# Altium schematic symbol library TAC5242IRGER.SchLib: 1 symbol
Pins are listed as number, name and electrical type; pins without a type are passive.

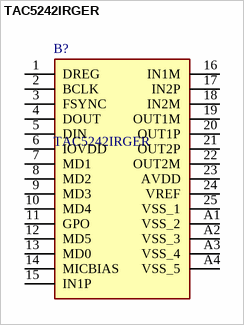
[diagram p0: symbol TAC5242IRGER]

## TAC5242IRGER
designator B?
Audio Interface 16 b, 24 b, 32 b DSP, I2C, I2S, PCM, SPI 24-VQFN (4x4); Manufacturer_Name: Texas Instruments; Geometry.Height: 1mm; Mouser Part Number: 595-TAC5242IRGER; Mouser Price/Stock: https://www.mouser.co.uk/ProductDetail/Texas-Instruments/TAC5242IRGER?qs=a2MtRaTmNORoQy1nhKqWlw%3D%3D; Manufacturer_Part_Number: TAC5242IRGER; Datasheet Link: https://www.ti.com/lit/gpn/tac5242
footprint TAC5242IRGER
pins: 1 DREG, 2 BCLK, 3 FSYNC, 4 DOUT, 5 DIN, 6 IOVDD, 7 MD1, 8 MD2, 9 MD3, 10 MD4, 11 GPO, 12 MD5, 13 MD0, 14 MICBIAS, 15 IN1P, 16 IN1M, 17 IN2P, 18 IN2M, 19 OUT1M, 20 OUT1P, 21 OUT2P, 22 OUT2M, 23 AVDD, 24 VREF, 25 VSS_1, A1 VSS_2, A2 VSS_3, A3 VSS_4, A4 VSS_5